# Altium schematic symbol library 29126.SchLib: 1 symbol
Pins are listed as number, name and electrical type; pins without a type are passive.

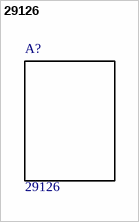
[diagram p0: symbol 29126]

## 29126
designator A?
Fingerprint Reader; MF: Parallax Inc.; Availability: Unavailable; MP: 29126; Package: None; SnapEDA_Link: https://www.snapeda.com/parts/29126/Parallax%20Inc./view-part/?ref=snap; Price: None; Value: *
footprint *MODULE_29126